# EAGLE library part 9262-50 (library impellimax-drivers)
Please contact factory for your specific package and pinout needs. www.impellimax.com 603-886-9569
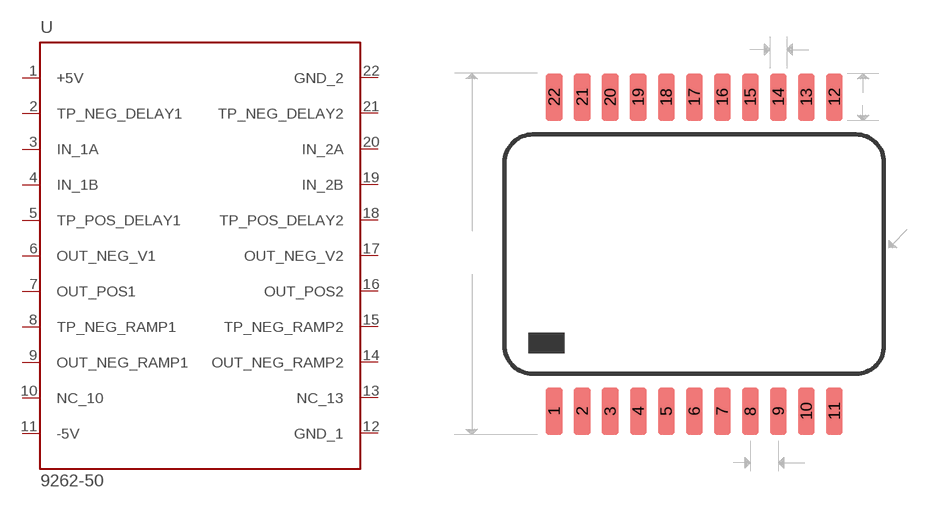
[diagram p6: symbol with the pads of 7403_C123; footprint 7403_C123]

Designator prefix U

## 9262-50  [7403_C123]
1  +5V  in
2  TP_NEG_DELAY1  in
3  IN_1A  in
4  IN_1B  in
5  TP_POS_DELAY1  pas
6  OUT_NEG_V1  in
7  OUT_POS1  in
8  TP_NEG_RAMP1  in
9  OUT_NEG_RAMP1  in
10  NC_10  in
11  -5V  pas
12  GND_1  in
13  NC_13  in
14  OUT_NEG_RAMP2  in
15  TP_NEG_RAMP2  in
16  OUT_POS2  in
17  OUT_NEG_V2  in
18  TP_POS_DELAY2  in
19  IN_2B  in
20  IN_2A  in
21  TP_NEG_DELAY2  in
22  GND_2  in

## Footprint 7403_C123 (pad centres in mm)
package .395 by .645 max actual lead to lead length .615 max not leadformed, seat package in thru-hole lead width .016, land pattern width .030
smd 0.762 x 2.159: 1 -6.351,-7.114; 2 -5.081,-7.11; 3 -3.811,-7.114; 4 -2.541,-7.11; 5 -1.269,-7.112; 6 0.001,-7.115; 7 1.267,-7.112; 8 2.538,-7.115; 9 3.809,-7.112; 10 5.079,-7.114; 11 6.349,-7.11; 12 6.349,7.114; 13 5.079,7.11; 14 3.808,7.11; 15 2.538,7.11; 16 1.268,7.11; 17 0.001,7.11; 18 -1.272,7.11; 19 -2.542,7.11; 20 -3.812,7.11; 21 -5.081,7.114; 22 -6.351,7.11